# EAGLE library part SM06B-SRSS-TB(LF)(SN) (library SM06B-SRSS-TB_LF__SN)
SH Series 6 Position 1 mm Surface Mount Right Angle Side Entry Shrouded Header Check prices <https://pricing.snapeda.com/parts/SM06B-SRSS-TB%28LF%29%28SN%29/JST%20Sales%20America%20Inc./view-part?ref=eda>
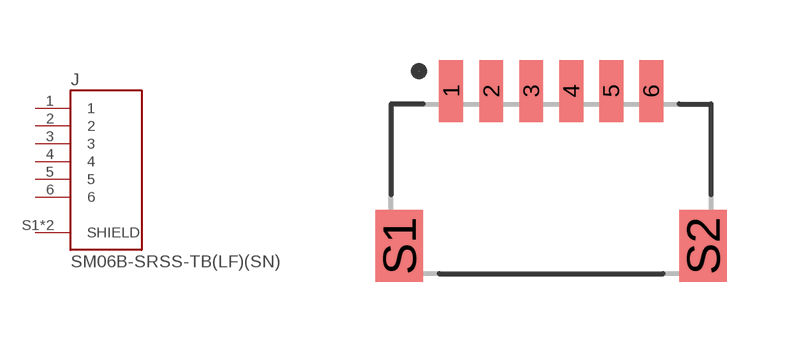
[diagram p0: symbol with the pads of JST_SM06B-SRSS-TB(LF)(SN); footprint JST_SM06B-SRSS-TB(LF)(SN)]

Designator prefix J

## SM06B-SRSS-TB(LF)(SN) (Availability: In Stock; Description: Connector Header Surface Mount, Right Angle 6 position 0.039 (1.00mm); MF: JST Sales America Inc.; MP: SM06B-SRSS-TB(LF)(SN); Package: None; Price: None; Purchase-URL: https://pricing.snapeda.com/search/part/SM06B-SRSS-TB(LF)(SN)/?ref=eda)  [JST_SM06B-SRSS-TB(LF)(SN)]
1  1  pas
2  2  pas
3  3  pas
4  4  pas
5  5  pas
6  6  pas
S1  SHIELD  pas
S2  SHIELD  pas

## Footprint JST_SM06B-SRSS-TB(LF)(SN) (pad centres in mm)
smd 0.6 x 1.55: 1 -2.5,0; 2 -1.5,0; 3 -0.5,0; 4 0.5,0; 5 1.5,0; 6 2.5,0
smd 1.2 x 1.8: S1 -3.8,-3.875; S2 3.8,-3.875